# EAGLE library part RELAY-F40.52 (library Class D Amp)
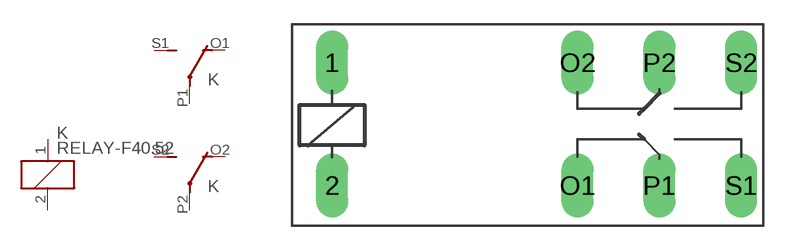
[diagram p4: symbol with the pads of F4052; footprint F4052]

Designator prefix K; gates SW2=U K1=K SW1=U

## RELAY-F40.52  [F4052]
1  K1:1  pas
2  K1:2  pas
O1  SW1:O  pas
O2  SW2:O  pas
P1  SW1:P  pas
P2  SW2:P  pas
S1  SW1:S  pas
S2  SW2:S  pas

## Footprint F4052 (pad centres in mm)
RELAY 2 x switch, Finder
drill 1.321 long: 1 -3.81,3.81; 2 -3.81,-3.81; O1 11.43,-3.81; O2 11.43,3.81; P1 16.51,-3.81; P2 16.51,3.81; S1 21.59,-3.81; S2 21.59,3.81